# Altium footprint library QFN_Test.PcbLib: 8 footprints
Each footprint in its own frame and in the unit in brackets; x right, y up, seen from the top. Pads: shape width x height; smd on the part's side, far side on the other; paste and mask are expansions set on the pad; w line width, h text height; cw(c..) or ccw(c..) is an arc to the next point about the centre after c.
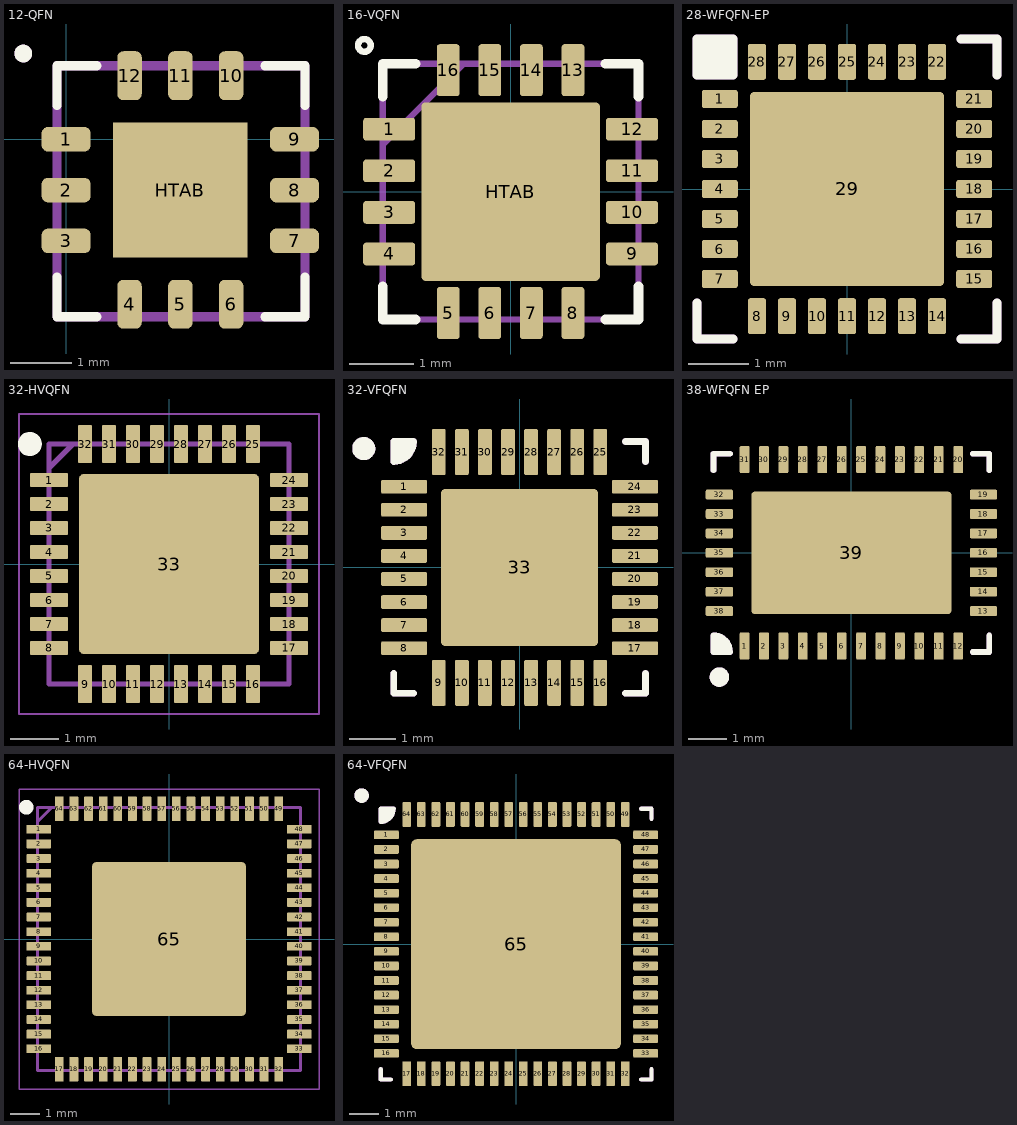
[diagram p0: the footprints below, top view; thin cyan lines are the x and y axes]

## 12-QFN [mm]
pads (13):
  rrect50% 0.8x0.4 smd: 1(0,0) 2(0,-0.83) 3(0,-1.66) 7(3.73,-1.66) 8(3.73,-0.83) 9(3.73,0)
  rrect50% 0.4x0.8 smd: 4(1.035,-2.695) 5(1.865,-2.695) 6(2.695,-2.695) 10(2.695,1.038) 11(1.865,1.038) 12(1.035,1.038)
  rect 2.2x2.2 smd: HTAB(1.865,-0.83)
Top Overlay:
  circle w0.15: c-0.7,1.4 r0.07
  lines w0.15: -0.15,-2.25 -0.15,-2.9 0.5,-2.9 ; -0.15,0.55 -0.15,1.2 0.5,1.2 ; 3.25,-2.9 3.9,-2.9 3.9,-2.25 ; 3.25,1.2 3.9,1.2 3.9,0.55
Mechanical 29:
  circle w0.15: c-0.7,1.4 r0.07
  lines w0.15: -0.15,-2.9 3.9,-2.9 3.9,1.2 -0.15,1.2 -0.15,-2.9
  text "'.Designator'" at -0.55,-1.25 h1
3D body "QFN12_4X4_MCH.step": height 0.91, standoff 0.02, extent -0.18,-2.875 3.91,1.215

## 16-VQFN [mil]
pads (17):
  rrect25% 32x14 smd: 1(-74.74,38.39) 2(-74.74,12.8) 3(-74.74,-12.8) 4(-74.74,-38.39) 9(74.74,-38.39) 10(74.74,-12.8) 11(74.74,12.8) 12(74.74,38.39)
  rrect25% 14x32 smd: 5(-38.39,-74.74) 6(-12.8,-74.74) 7(12.8,-74.74) 8(38.39,-74.74) 13(38.39,74.74) 14(12.8,74.74) 15(-12.8,74.74) 16(-38.39,74.74)
  rrect5% 110x110 smd paste-54.5 mask+0: HTAB(0,0)
Top Overlay:
  circle w3.94: c-90,90 r3.94
  lines w6: -78.74,-58.49 -78.74,-78.74 -58.49,-78.74 ; -78.74,58.49 -78.74,78.74 -58.49,78.74 ; 58.49,-78.74 78.74,-78.74 78.74,-58.49 ; 58.49,78.74 78.74,78.74 78.74,58.49
Mechanical 29:
  lines w3.94: -78.74,28.74 -28.74,78.74 ; -78.74,-78.74 -78.74,78.74 78.74,78.74 78.74,-78.74 -78.74,-78.74 ; -78.74,-45.39 -78.74,-31.39 -78.74,-45.39 ; -78.74,-19.8 -78.74,-5.8 -78.74,-19.8 ; -78.74,5.8 -78.74,19.8 -78.74,5.8 ; -78.74,31.39 -78.74,45.39 -78.74,31.39 ; -45.39,-78.74 -31.39,-78.74 -45.39,-78.74 ; -45.39,78.74 -31.39,78.74 -45.39,78.74 ; -19.8,-78.74 -5.8,-78.74 -19.8,-78.74 ; -19.8,78.74 -5.8,78.74 -19.8,78.74 ; 5.8,-78.74 19.8,-78.74 5.8,-78.74 ; 5.8,78.74 19.8,78.74 5.8,78.74 ; 31.39,-78.74 45.39,-78.74 31.39,-78.74 ; 31.39,78.74 45.39,78.74 31.39,78.74 ; 78.74,-45.39 78.74,-31.39 78.74,-45.39 ; 78.74,-19.8 78.74,-5.8 78.74,-19.8 ; 78.74,5.8 78.74,19.8 78.74,5.8 ; 78.74,31.39 78.74,45.39 78.74,31.39
  text "'.Designator'" at -72.42,-9.38 h30
3D body "QFN16_4x4MC.step": height 37.98, standoff 0.5, extent -78.74,-78.74 78.74,78.74

## 28-WFQFN-EP [mm] "28-LFCSP-WQ (4x4)"
pads (29):
  rrect25% 0.6x0.3 smd mask+0.05: 1(-2.12,1.5) 2(-2.12,1) 3(-2.12,0.5) 4(-2.12,0) 5(-2.12,-0.5) 6(-2.12,-1) 7(-2.12,-1.5) 15(2.12,-1.5) 16(2.12,-1) 17(2.12,-0.5) 18(2.12,0) 19(2.12,0.5) 20(2.12,1) 21(2.12,1.5)
  rrect25% 0.3x0.6 smd mask+0.05: 8(-1.5,-2.12) 9(-1,-2.12) 10(-0.5,-2.12) 11(0,-2.12) 12(0.5,-2.12) 13(1,-2.12) 14(1.5,-2.12) 22(1.5,2.12) 23(1,2.12) 24(0.5,2.12) 25(0,2.12) 26(-0.5,2.12) 27(-1,2.12) 28(-1.5,2.12)
  rrect5% 3.24x3.24 smd mask+0.05: 29(0,0)
Top Overlay:
  rectangle: -2.5,1.9 -1.9,2.5
  lines w0.15: -2.5,-1.9 -2.5,-2.5 -1.9,-2.5 ; 1.9,-2.5 2.5,-2.5 2.5,-1.9 ; 1.9,2.5 2.5,2.5 2.5,1.9 ; -2.5,1.9 -2.5,2.5 -1.9,2.5 -1.9,1.9 -2.5,1.9
Mechanical 15:
  lines w0.1: -0.3,0 0.3,0 ; 0,-0.3 0,0.3
Mechanical 29:
  rectangle: -2.5,1.9 -1.9,2.5
  lines w0.15: -2.5,-1.9 -2.5,-2.5 -1.9,-2.5 ; 1.9,-2.5 2.5,-2.5 2.5,-1.9 ; 1.9,2.5 2.5,2.5 2.5,1.9 ; -2.5,1.9 -2.5,2.5 -1.9,2.5 -1.9,1.9 -2.5,1.9
  text "'.Designator'" at -1.534,-0.143 h0.64
3D body: height 0.8, standoff 0.1, extent -2.5,-2.5 2.5,2.5

## 32-HVQFN [mm]
pads (33):
  rrect25% 0.8x0.3 smd: 1(-2.5,1.75) 2(-2.5,1.25) 3(-2.5,0.75) 4(-2.5,0.25) 5(-2.5,-0.25) 6(-2.5,-0.75) 7(-2.5,-1.25) 8(-2.5,-1.75) 17(2.5,-1.75) 18(2.5,-1.25) 19(2.5,-0.75) 20(2.5,-0.25) 21(2.5,0.25) 22(2.5,0.75) 23(2.5,1.25) 24(2.5,1.75)
  rrect25% 0.3x0.8 smd: 9(-1.75,-2.5) 10(-1.25,-2.5) 11(-0.75,-2.5) 12(-0.25,-2.5) 13(0.25,-2.5) 14(0.75,-2.5) 15(1.25,-2.5) 16(1.75,-2.5) 25(1.75,2.5) 26(1.25,2.5) 27(0.75,2.5) 28(0.25,2.5) 29(-0.25,2.5) 30(-0.75,2.5) 31(-1.25,2.5) 32(-1.75,2.5)
  rrect5% 3.75x3.75 smd: 33(0,0)
Top Overlay:
  circle w0.25: c-2.9,2.5 r0.125
Mechanical 15:
  lines w0.05: -3.125,-3.125 -3.125,3.125 3.125,3.125 3.125,-3.125 -3.125,-3.125
Mechanical 29:
  lines w0.1: -2.5,2 -2,2.5 ; -2.5,-2.5 -2.5,2.5 2.5,2.5 2.5,-2.5 -2.5,-2.5
  text "'.Designator'" at -1.84,-0.172 h0.76
3D body "IP4786CZ32Y.stp": height 0.85, standoff 0, extent -2.55,-2.55 2.55,2.55

## 32-VFQFN [mm]
pads (33):
  rrect25% 1x0.3 smd: 1(-2.5,1.75) 2(-2.5,1.25) 3(-2.5,0.75) 4(-2.5,0.25) 5(-2.5,-0.25) 6(-2.5,-0.75) 7(-2.5,-1.25) 8(-2.5,-1.75) 17(2.5,-1.75) 18(2.5,-1.25) 19(2.5,-0.75) 20(2.5,-0.25) 21(2.5,0.25) 22(2.5,0.75) 23(2.5,1.25) 24(2.5,1.75)
  rrect25% 0.3x1 smd: 9(-1.75,-2.5) 10(-1.25,-2.5) 11(-0.75,-2.5) 12(-0.25,-2.5) 13(0.25,-2.5) 14(0.75,-2.5) 15(1.25,-2.5) 16(1.75,-2.5) 25(1.75,2.5) 26(1.25,2.5) 27(0.75,2.5) 28(0.25,2.5) 29(-0.25,2.5) 30(-0.75,2.5) 31(-1.25,2.5) 32(-1.75,2.5)
  rrect5% 3.4x3.4 smd: 33(0,0)
Top Overlay:
  circle w0.25: c-3.375,2.575 r0.125
  region: -2.725,2.725 -2.3,2.725 -2.3,2.64 -2.365,2.484 -2.484,2.365 -2.64,2.3 -2.725,2.3
  lines w0.15: -2.725,-2.3 -2.725,-2.725 -2.3,-2.725 ; 2.3,-2.725 2.725,-2.725 2.725,-2.3 ; 2.3,2.725 2.725,2.725 2.725,2.3 ; -2.725,2.3 ccw(c-2.725,2.725) -2.3,2.725 -2.725,2.725 -2.725,2.3
Mechanical 15:
  lines w0.1: -0.3,0 0.3,0 ; 0,-0.3 0,0.3
Mechanical 29:
  circle w0.25: c-3.375,2.575 r0.125
  region: -2.725,2.725 -2.3,2.725 -2.3,2.64 -2.365,2.484 -2.484,2.365 -2.64,2.3 -2.725,2.3
  lines w0.15: -2.725,-2.3 -2.725,-2.725 -2.3,-2.725 ; 2.3,-2.725 2.725,-2.725 2.725,-2.3 ; 2.3,2.725 2.725,2.725 2.725,2.3 ; -2.725,2.3 ccw(c-2.725,2.725) -2.3,2.725 -2.725,2.725 -2.725,2.3
  text "'.Designator'" at -2.457,-0.19 h1.02
3D body: height 1, standoff 0.01, extent -2.575,-2.575 2.575,2.575

## 38-WFQFN EP [mm]
pads (39):
  rrect25% 0.25x0.7 smd mask+0.05: 1(-2.75,-2.4) 2(-2.25,-2.4) 3(-1.75,-2.4) 4(-1.25,-2.4) 5(-0.75,-2.4) 6(-0.25,-2.4) 7(0.25,-2.4) 8(0.75,-2.4) 9(1.25,-2.4) 10(1.75,-2.4) 11(2.25,-2.4) 12(2.75,-2.4) 20(2.75,2.4) 21(2.25,2.4) 22(1.75,2.4) 23(1.25,2.4) 24(0.75,2.4) 25(0.25,2.4) 26(-0.25,2.4) 27(-0.75,2.4) 28(-1.25,2.4) 29(-1.75,2.4) 30(-2.25,2.4) 31(-2.75,2.4)
  rrect25% 0.7x0.25 smd mask+0.05: 13(3.4,-1.5) 14(3.4,-1) 15(3.4,-0.5) 16(3.4,0) 17(3.4,0.5) 18(3.4,1) 19(3.4,1.5) 32(-3.4,1.5) 33(-3.4,1) 34(-3.4,0.5) 35(-3.4,0) 36(-3.4,-0.5) 37(-3.4,-1) 38(-3.4,-1.5)
  rrect5% 5.15x3.15 smd: 39(0,0)
Top Overlay:
  circle w0.25: c-3.4,-3.2 r0.125
  region: -3.55,-2.55 -3.55,-2.125 -3.466,-2.125 -3.309,-2.19 -3.19,-2.309 -3.125,-2.465 -3.125,-2.55
  lines w0.15: -3.55,2.125 -3.55,2.55 -3.125,2.55 ; 3.125,-2.55 3.55,-2.55 3.55,-2.125 ; 3.125,2.55 3.55,2.55 3.55,2.125 ; -3.55,-2.55 -3.55,-2.125 cw(c-3.55,-2.55) -3.125,-2.55 -3.55,-2.55
Mechanical 15:
  lines w0.1: -0.3,0 0.3,0 ; 0,-0.3 0,0.3
Mechanical 29:
  circle w0.25: c-3.4,-3.2 r0.125
  region: -3.55,-2.55 -3.55,-2.125 -3.466,-2.125 -3.309,-2.19 -3.19,-2.309 -3.125,-2.465 -3.125,-2.55
  lines w0.15: -3.55,2.125 -3.55,2.55 -3.125,2.55 ; 3.125,-2.55 3.55,-2.55 3.55,-2.125 ; 3.125,2.55 3.55,2.55 3.55,2.125 ; -3.55,-2.55 -3.125,-2.55 ccw(c-3.55,-2.55) -3.55,-2.125 -3.55,-2.55
  text "'.Designator'" at -1.84,-0.172 h0.76
3D body "QFN-38_UHF.stp": height 0.8, standoff 0, extent -3.55,-2.55 3.55,2.55

## 64-HVQFN [mm]
pads (65):
  rrect25% 0.85x0.3 smd: 1(-4.45,3.75) 2(-4.45,3.25) 3(-4.45,2.75) 4(-4.45,2.25) 5(-4.45,1.75) 6(-4.45,1.25) 7(-4.45,0.75) 8(-4.45,0.25) 9(-4.45,-0.25) 10(-4.45,-0.75) 11(-4.45,-1.25) 12(-4.45,-1.75) 13(-4.45,-2.25) 14(-4.45,-2.75) 15(-4.45,-3.25) 16(-4.45,-3.75) 33(4.45,-3.75) 34(4.45,-3.25) 35(4.45,-2.75) 36(4.45,-2.25) 37(4.45,-1.75) 38(4.45,-1.25) 39(4.45,-0.75) 40(4.45,-0.25) 41(4.45,0.25) 42(4.45,0.75) 43(4.45,1.25) 44(4.45,1.75) 45(4.45,2.25) 46(4.45,2.75) 47(4.45,3.25) 48(4.45,3.75)
  rrect25% 0.3x0.85 smd: 17(-3.75,-4.45) 18(-3.25,-4.45) 19(-2.75,-4.45) 20(-2.25,-4.45) 21(-1.75,-4.45) 22(-1.25,-4.45) 23(-0.75,-4.45) 24(-0.25,-4.45) 25(0.25,-4.45) 26(0.75,-4.45) 27(1.25,-4.45) 28(1.75,-4.45) 29(2.25,-4.45) 30(2.75,-4.45) 31(3.25,-4.45) 32(3.75,-4.45) 49(3.75,4.45) 50(3.25,4.45) 51(2.75,4.45) 52(2.25,4.45) 53(1.75,4.45) 54(1.25,4.45) 55(0.75,4.45) 56(0.25,4.45) 57(-0.25,4.45) 58(-0.75,4.45) 59(-1.25,4.45) 60(-1.75,4.45) 61(-2.25,4.45) 62(-2.75,4.45) 63(-3.25,4.45) 64(-3.75,4.45)
  rrect5% 5.25x5.25 smd: 65(0,0)
Top Overlay:
  circle w0.25: c-4.875,4.5 r0.125
Mechanical 15:
  lines w0.05: -5.125,-5.125 5.125,-5.125 5.125,5.125 -5.125,5.125 -5.125,-5.125
Mechanical 29:
  lines w0.1: -4.5,4 -4,4.5 ; -4.5,-4.5 4.5,-4.5 4.5,4.5 -4.5,4.5 -4.5,-4.5
  text "'.Designator'" at -3.068,-0.287 h1.27
3D body "TDA19988BHN_C1,557.stp": height 1, standoff 0, extent -4.55,-4.55 4.55,4.55

## 64-VFQFN [mm]
pads (65):
  rrect25% 0.85x0.3 smd: 1(-4.45,3.75) 2(-4.45,3.25) 3(-4.45,2.75) 4(-4.45,2.25) 5(-4.45,1.75) 6(-4.45,1.25) 7(-4.45,0.75) 8(-4.45,0.25) 9(-4.45,-0.25) 10(-4.45,-0.75) 11(-4.45,-1.25) 12(-4.45,-1.75) 13(-4.45,-2.25) 14(-4.45,-2.75) 15(-4.45,-3.25) 16(-4.45,-3.75) 33(4.45,-3.75) 34(4.45,-3.25) 35(4.45,-2.75) 36(4.45,-2.25) 37(4.45,-1.75) 38(4.45,-1.25) 39(4.45,-0.75) 40(4.45,-0.25) 41(4.45,0.25) 42(4.45,0.75) 43(4.45,1.25) 44(4.45,1.75) 45(4.45,2.25) 46(4.45,2.75) 47(4.45,3.25) 48(4.45,3.75)
  rrect25% 0.3x0.85 smd: 17(-3.75,-4.45) 18(-3.25,-4.45) 19(-2.75,-4.45) 20(-2.25,-4.45) 21(-1.75,-4.45) 22(-1.25,-4.45) 23(-0.75,-4.45) 24(-0.25,-4.45) 25(0.25,-4.45) 26(0.75,-4.45) 27(1.25,-4.45) 28(1.75,-4.45) 29(2.25,-4.45) 30(2.75,-4.45) 31(3.25,-4.45) 32(3.75,-4.45) 49(3.75,4.45) 50(3.25,4.45) 51(2.75,4.45) 52(2.25,4.45) 53(1.75,4.45) 54(1.25,4.45) 55(0.75,4.45) 56(0.25,4.45) 57(-0.25,4.45) 58(-0.75,4.45) 59(-1.25,4.45) 60(-1.75,4.45) 61(-2.25,4.45) 62(-2.75,4.45) 63(-3.25,4.45) 64(-3.75,4.45)
  rrect5% 7.2x7.2 smd: 65(0,0)
Top Overlay:
  circle w0.25: c-5.3,5.1 r0.125
  region: -4.2,4.65 -4.65,4.65 -4.65,4.2 -4.5,4.2 -4.2,4.5
  lines w0.15: -4.65,-4.3 -4.65,-4.65 -4.3,-4.65 ; 4.3,-4.65 4.65,-4.65 4.65,-4.3 ; 4.3,4.65 4.65,4.65 4.65,4.3 ; -4.65,4.2 ccw(c-4.65,4.65) -4.2,4.65 -4.65,4.65 -4.65,4.2
Mechanical 15:
  lines w0.1: -0.3,0 0.3,0 ; 0,-0.3 0,0.3
Mechanical 29:
  circle w0.25: c-5.3,5.1 r0.125
  region: -4.2,4.65 -4.65,4.65 -4.65,4.2 -4.5,4.2 -4.2,4.5
  lines w0.15: -4.65,-4.3 -4.65,-4.65 -4.3,-4.65 ; 4.3,-4.65 4.65,-4.65 4.65,-4.3 ; 4.3,4.65 4.65,4.65 4.65,4.3 ; -4.65,4.2 ccw(c-4.65,4.65) -4.2,4.65 -4.65,4.65 -4.65,4.2
  text "'.Designator'" at -3.068,-0.287 h1.27
3D body "SI LABS QFN-64.step": height 0.9, standoff 0, extent -4.501,-4.501 4.501,4.501